# EAGLE library part BLE113 (library lib_stankus)
BLE113
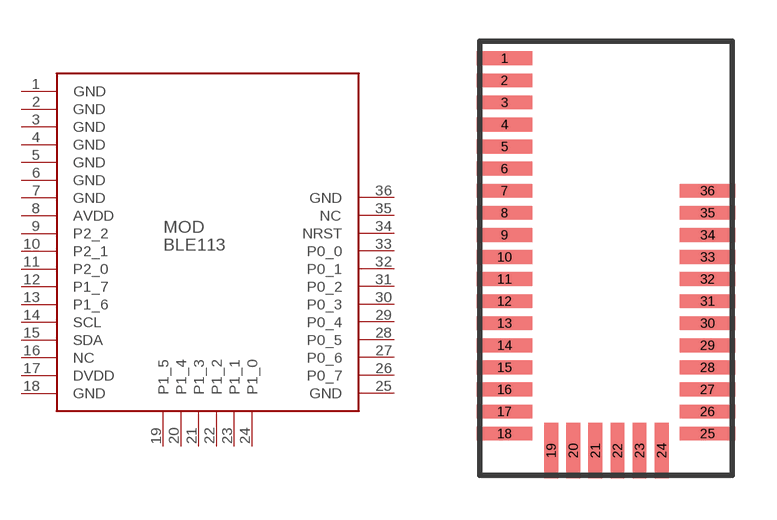
[diagram p97: symbol with the pads of BLE113; footprint BLE113]

Designator prefix MOD

## BLE113  [BLE113]
1  GND  pas
2  GND  pas
3  GND  pas
4  GND  pas
5  GND  pas
6  GND  pas
7  GND  pas
8  AVDD  pas
9  P2_2  pas
10  P2_1  pas
11  P2_0  pas
12  P1_7  pas
13  P1_6  pas
14  SCL  pas
15  SDA  pas
16  NC  nc
17  DVDD  pas
18  GND  pas
19  P1_5  pas
20  P1_4  pas
21  P1_3  pas
22  P1_2  pas
23  P1_1  pas
24  P1_0  pas
25  GND  pas
26  P0_7  pas
27  P0_6  pas
28  P0_5  pas
29  P0_4  pas
30  P0_3  pas
31  P0_2  pas
32  P0_1  pas
33  P0_0  pas
34  NRST  pas
35  NC  nc
36  GND  pas

## Footprint BLE113 (pad centres in mm)
BLE113
smd 2 x 0.5: 1 -3.675,7.25; 2 -3.675,6.45; 3 -3.675,5.65; 4 -3.675,4.85; 5 -3.675,4.05; 6 -3.675,3.25; 7 -3.675,2.45; 8 -3.675,1.65; 9 -3.675,0.85; 10 -3.675,0.05; 11 -3.675,-0.75; 12 -3.675,-1.55; 13 -3.675,-2.35; 14 -3.675,-3.15; 15 -3.675,-3.95; 16 -3.675,-4.75; 17 -3.675,-5.55; 18 -3.675,-6.35; 25 3.675,-6.35; 26 3.675,-5.55; 27 3.675,-4.75; 28 3.675,-3.95; 29 3.675,-3.15; 30 3.675,-2.35; 31 3.675,-1.55; 32 3.675,-0.75; 33 3.675,0.05; 34 3.675,0.85; 35 3.675,1.65; 36 3.675,2.45
smd 0.5 x 2: 19 -1.988,-6.963; 20 -1.188,-6.963; 21 -0.388,-6.963; 22 0.412,-6.963; 23 1.212,-6.963; 24 2.013,-6.963